# Altium footprint library RJ-45_8x8.PcbLib: 1 footprints
Each footprint in its own frame and in the unit in brackets; x right, y up, seen from the top. Pads: shape width x height; smd on the part's side, far side on the other; paste and mask are expansions set on the pad; w line width, h text height; cw(c..) or ccw(c..) is an arc to the next point about the centre after c.
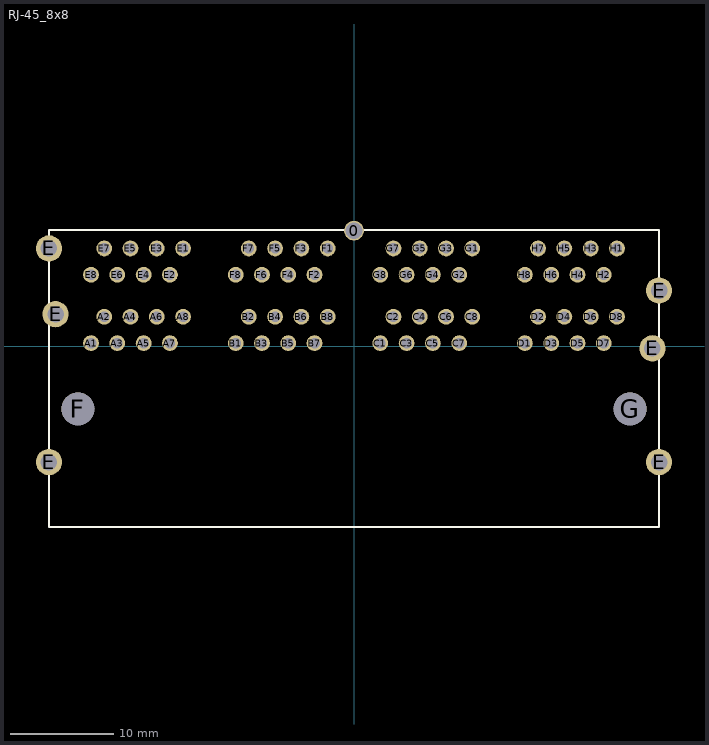
[diagram p0: the footprint, top view; thin cyan lines are the x and y axes]

## RJ-45_8x8 [mil]
height 1000
pads (73):
  round 75 hole 63: 0(0,440)
  round 60 hole 40: A1(-1000,12.5) A2(-950,112.5) A3(-900,12.5) A4(-850,112.5) A5(-800,12.5) A6(-750,112.5) A7(-700,12.5) A8(-650,112.5) B1(-450,12.5) B2(-400,112.5) B3(-350,12.5) B4(-300,112.5) B5(-250,12.5) B6(-200,112.5) B7(-150,12.5) B8(-100,112.5) C1(100,12.5) C2(150,112.5) C3(200,12.5) C4(250,112.5) C5(300,12.5) C6(350,112.5) C7(400,12.5) C8(450,112.5) D1(650,12.5) D2(700,112.5) D3(750,12.5) D4(800,112.5) D5(850,12.5) D6(900,112.5) D7(950,12.5) D8(1000,112.5) E1(-650,372.5) E2(-700,272.5) E3(-750,372.5) E4(-800,272.5) E5(-850,372.5) E6(-900,272.5) E7(-950,372.5) E8(-1000,272.5) F1(-100,372.5) F2(-150,272.5) F3(-200,372.5) F4(-250,272.5) F5(-300,372.5) F6(-350,272.5) F7(-400,372.5) F8(-450,272.5) G1(450,372.5) G2(400,272.5) G3(350,372.5) G4(300,272.5) G5(250,372.5) G6(200,272.5) G7(150,372.5) G8(100,272.5) H1(1000,372.5) H2(950,272.5) H3(900,372.5) H4(850,272.5) H5(800,372.5) H6(750,272.5) H7(700,372.5) H8(650,272.5)
  round 100 hole 63: E(-1160,-440) E(-1160,372.5) E(-1135,122.5) E(1135,-7.5) E(1160,-440) E(1160,212.5)
  round 125 hole 125.98: F(-1050,-237.5) G(1050,-237.5)
Top Overlay:
  lines w8: -1160,-687.5 -1160,442.5 -40,442.5 1160,442.5 1160,-687.5 -1160,-687.5
3D body: height 1000, standoff 0, extent -1164,-691.5 1164,446.5